# Altium schematic symbol library SCH - OPAMP - TI TLV9301 DBV.SCHLIB: 1 symbol
Pins are listed as number, name and electrical type; pins without a type are passive.

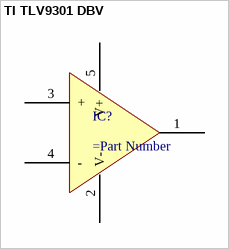
[diagram p0: symbol TI TLV9301 DBV]

## TI TLV9301 DBV
designator IC?
General Purpose Amplifier 1 Circuit Rail-to-Rail SOT-23-5
pins: 1 OUT, 2 V-, 3 +, 4 -, 5 V+